# Altium integrated library Cypress USB Controllers.IntLib: 169 symbols (part 2 of 15)
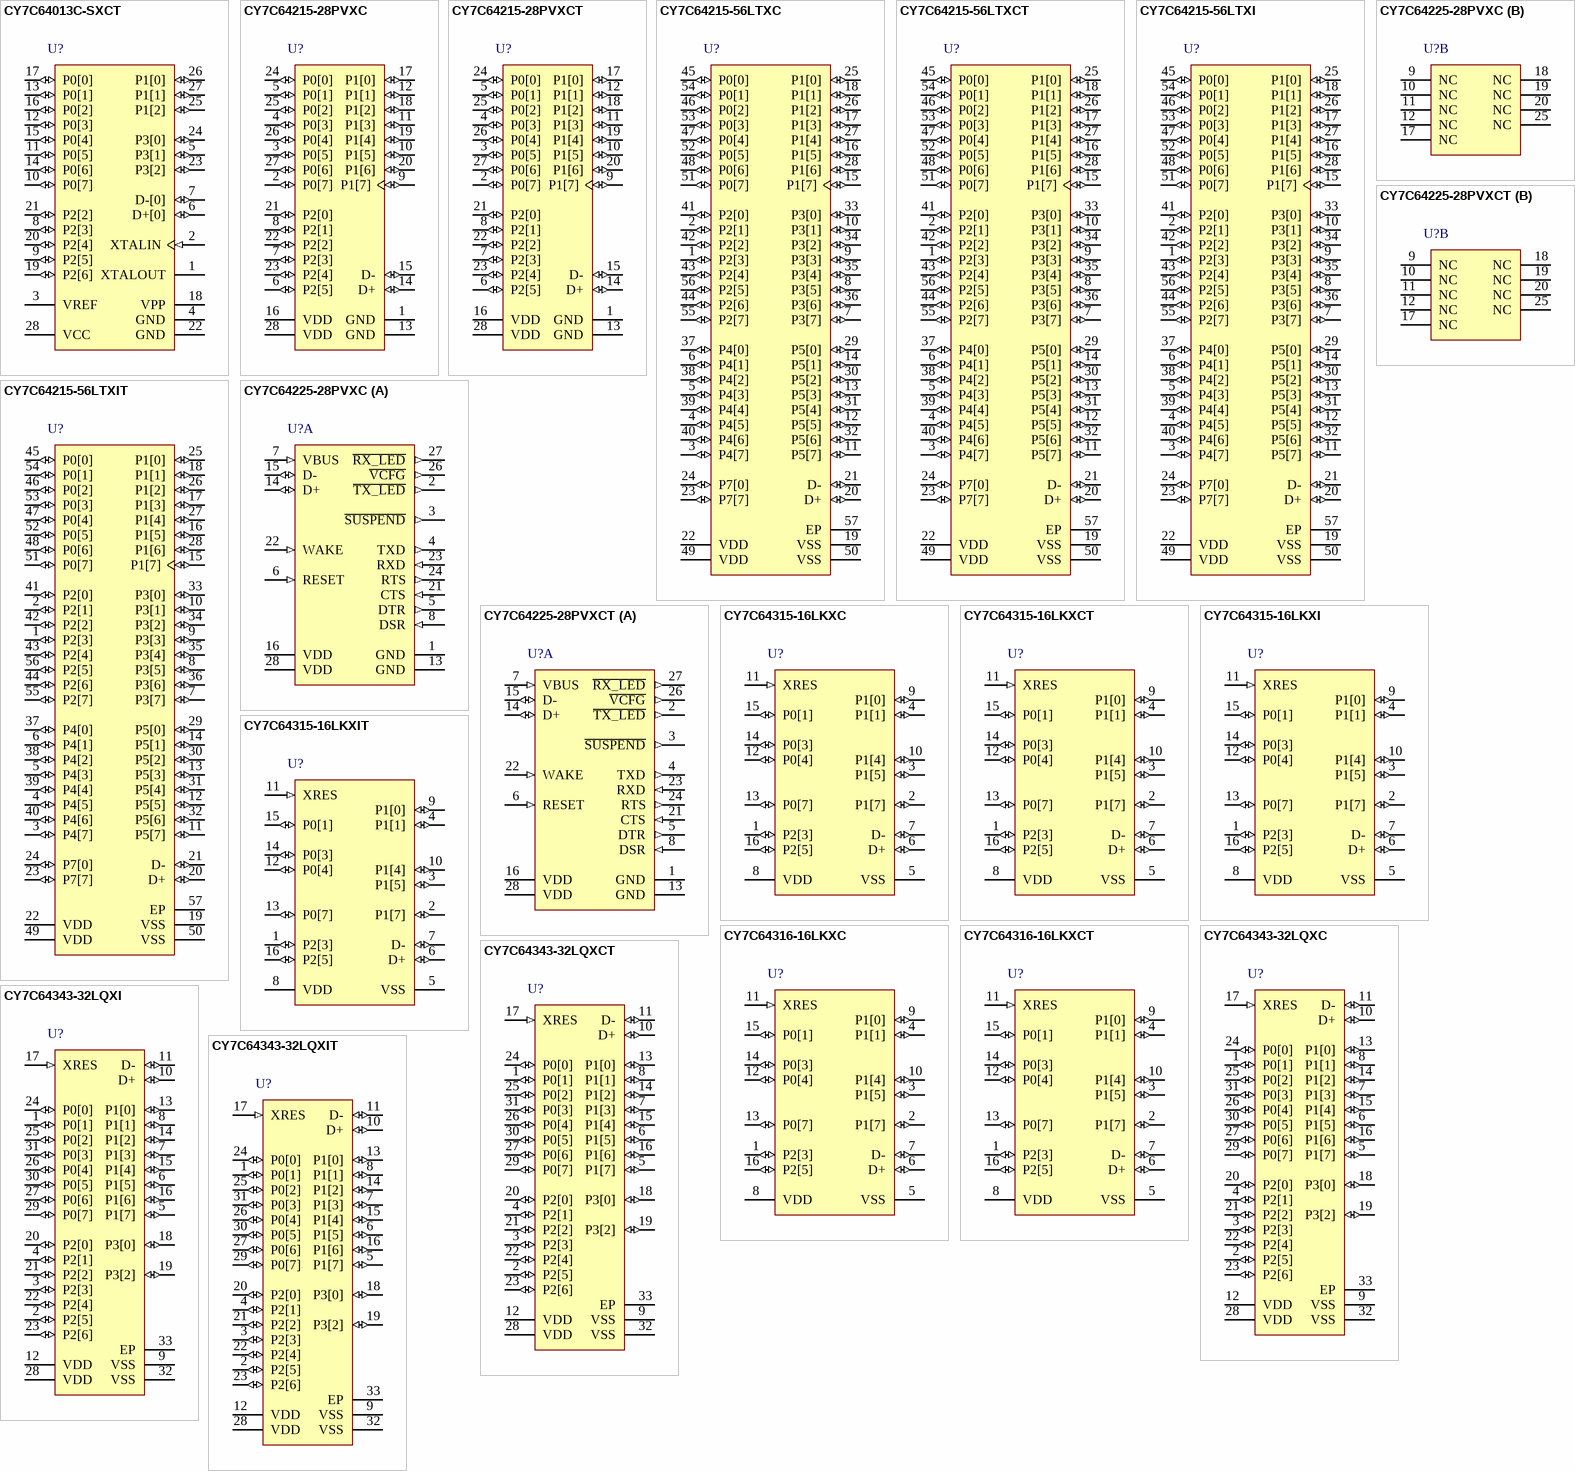
[diagram p23: symbols CY7C64013C-SXCT to CY7C64343-32LQXIT]

## CY7C64013C-SXCT
designator U?
Full-Speed USB (12-Mbps) Function, 8 KB, 19 I/Os, 3.15 to 3.45 V, 0 to 70 degC, 28-Pin SOIC (SX28), Tape and Reel; Manufacturer: Cypress; PartNumber: CY7C64013C-SXCT; CPU Core: M8; Max. Operating Voltage (V): 3.45; Memory Architecture: EPROM; Memory Size (KB): 8; Min. Operating Voltage (V): 3.15; No. of I/Os: 19; Populated: Yes; DatasheetVersion: Rev. *E; PackageVersion: Rev. *E, 01/2010; PackageReference: SX28; PackageDescription: 28-Pin SOIC, Body 17.91 x 7.51 mm, Pitch 1.27 mm; Supplier 1: Digi-Key; Supplier Part Number 1: CY7C64013C-SXCT-ND; Max. Operating Temp. (degreesC): 70; Min. Operating Temp. (degreesC): 0; Packing: Tape and Reel; RoHS: Pb-Free; Mounting Technology: Surface Mount; Code_JEDEC: MO-119; ComponentLink1Description: Manufacturer URL; ComponentLink1URL: http://www.cypress.com/; ComponentLink2Description: Datasheet; ComponentLink2URL: http://www.cypress.com/?docID=48692; ComponentLink3Description: Package Specification; ComponentLink3URL: http://www.cypress.com/?docID=39168
footprint CYP-SX28_N (SOIC, 28-Leads, Body 17.9x7.5mm, Pitch 1.27mm, IPC Medium Density)
footprint CYP-SX28_L (SOIC, 28-Leads, Body 17.9x7.5mm, Pitch 1.27mm, IPC High Density)
footprint CYP-SX28_M (SOIC, 28-Leads, Body 17.9x7.5mm, Pitch 1.27mm, IPC Low Density)
pins: 1 XTALOUT "6-MHz crystal out.", 2 XTALIN (in) "6-MHz crystal or external clock input.", 3 VREF (power) "External 3.3 V supply voltage for the differential data output buffers and the D+ pull-up.", 4 GND (power) "Ground.", 5 P3[1] (io) "GPIO Port 3, capable of sinking 12 mA (typical).", 6 D+[0] (io) "Upstream port, USB differential data.", 7 D-[0] (io) "Upstream port, USB differential data.", 8 P2[3] (io) "GPIO Port 2 capable of sinking 7 mA (typical). HAPI is also supported through P2[6:2].", 9 P2[5] (io) "GPIO Port 2 capable of sinking 7 mA (typical). HAPI is also supported through P2[6:2].", 10 P0[7] (io) "GPIO Port 0 capable of sinking 7 mA (typical).", 11 P0[5] (io) "GPIO Port 0 capable of sinking 7 mA (typical).", 12 P0[3] (io) "GPIO Port 0 capable of sinking 7 mA (typical).", 13 P0[1] (io) "GPIO Port 0 capable of sinking 7 mA (typical).", 14 P0[6] (io) "GPIO Port 0 capable of sinking 7 mA (typical).", 15 P0[4] (io) "GPIO Port 0 capable of sinking 7 mA (typical).", 16 P0[2] (io) "GPIO Port 0 capable of sinking 7 mA (typical).", 17 P0[0] (io) "GPIO Port 0 capable of sinking 7 mA (typical).", 18 VPP (power) "Programming voltage supply, tie to ground during normal operation.", 19 P2[6] (io) "GPIO Port 2 capable of sinking 7 mA (typical). HAPI is also supported through P2[6:2].", 20 P2[4] (io) "GPIO Port 2 capable of sinking 7 mA (typical). HAPI is also supported through P2[6:2].", 21 P2[2] (io) "GPIO Port 2 capable of sinking 7 mA (typical). HAPI is also supported through P2[6:2].", 22 GND (power) "Ground.", 23 P3[2] (io) "GPIO Port 3, capable of sinking 12 mA (typical).", 24 P3[0] (io) "GPIO Port 3, capable of sinking 12 mA (typical).", 25 P1[2] (io) "GPIO Port 1 capable of sinking 7 mA (typical).", 26 P1[0] (io) "GPIO Port 1 capable of sinking 7 mA (typical).", 27 P1[1] (io) "GPIO Port 1 capable of sinking 7 mA (typical).", 28 VCC (power) "Voltage supply."

## CY7C64215-28PVXC
designator U?
enCoRe(TM) III Full-Speed USB Controller, 16 KB, 22 I/Os, 3.15 to 5.25 V, 0 to 70 degC, 28-Pin SSOP (PVX28), Tube; Manufacturer: Cypress; PartNumber: CY7C64215-28PVXC; CPU Core: M8C; Max. Operating Voltage (V): 5.25; Memory Architecture: Flash; Memory Size (KB): 16; Min. Operating Voltage (V): 3.15; No. of I/Os: 22; Populated: Yes; DatasheetVersion: Rev. *D; PackageVersion: Rev. *C, 10/2001; PackageReference: PVX28; PackageDescription: 28-Pin Super Small Outline Package, Body 10.2 x 5.3 mm, Pitch 0.65 mm; Supplier 1: Digi-Key; Supplier Part Number 1: 428-2916-5-ND; Max. Operating Temp. (degreesC): 70; Min. Operating Temp. (degreesC): 0; Packing: Tube; RoHS: Pb-Free; Mounting Technology: Surface Mount; ComponentLink1Description: Manufacturer URL; ComponentLink1URL: http://www.cypress.com/; ComponentLink2Description: Datasheet; ComponentLink2URL: http://www.cypress.com/?docID=47572; ComponentLink3Description: Package Specification; ComponentLink3URL: http://www.cypress.com/?docID=1371
footprint CYP-PVX28_N (SOP, 28-Leads, Body 10.2x5.3mm, Pitch 0.65mm, IPC Medium Density)
footprint CYP-PVX28_L (SOP, 28-Leads, Body 10.2x5.3mm, Pitch 0.65mm, IPC High Density)
footprint CYP-PVX28_M (SOP, 28-Leads, Body 10.2x5.3mm, Pitch 0.65mm, IPC Low Density)
pins: 1 GND (power) "Ground connection.", 2 P0[7] (io) "Analog column mux input.", 3 P0[5] (io) "Analog column mux input and column output.", 4 P0[3] (io) "Analog column mux input and column output.", 5 P0[1] (io) "Analog column mux input.", 6 P2[5] (io), 7 P2[3] (io) "Direct switched capacitor block input.", 8 P2[1] (io) "Direct switched capacitor block input.", 9 P1[7] (io) "I2C SCL", 10 P1[5] (io) "I2C SDA", 11 P1[3] (io), 12 P1[1] (io) "I2C SCL, ISSP-SCLK.", 13 GND (power) "Ground connection.", 14 D+ (io), 15 D- (io), 16 VDD (power) "Supply voltage.", 17 P1[0] (io) "I2C SCL, ISSP-SDATA.", 18 P1[2] (io), 19 P1[4] (io), 20 P1[6] (io), 21 P2[0] (io) "Direct switched capacitor block input.", 22 P2[2] (io) "Direct switched capacitor block input.", 23 P2[4] (io) "External analog ground (AGND) input.", 24 P0[0] (io) "Analog column mux input.", 25 P0[2] (io) "Analog column mux input and column output.", 26 P0[4] (io) "Analog column mux input and column output.", 27 P0[6] (io) "Analog column mux input.", 28 VDD (power) "Supply voltage."

## CY7C64215-28PVXCT
designator U?
enCoRe(TM) III Full-Speed USB Controller, 16 KB, 22 I/Os, 3.15 to 5.25 V, 0 to 70 degC, 28-Pin SSOP (PVX28), Tape and Reel; Manufacturer: Cypress; PartNumber: CY7C64215-28PVXCT; CPU Core: M8C; Max. Operating Voltage (V): 5.25; Memory Architecture: Flash; Memory Size (KB): 16; Min. Operating Voltage (V): 3.15; No. of I/Os: 22; Populated: Yes; DatasheetVersion: Rev. *D; PackageVersion: Rev. *C, 10/2001; PackageReference: PVX28; PackageDescription: 28-Pin Super Small Outline Package, Body 10.2 x 5.3 mm, Pitch 0.65 mm; Supplier 1: Digi-Key; Supplier Part Number 1: CY7C64215-28PVXCT-ND; Max. Operating Temp. (degreesC): 70; Min. Operating Temp. (degreesC): 0; Packing: Tape and Reel; RoHS: Pb-Free; Mounting Technology: Surface Mount; ComponentLink1Description: Manufacturer URL; ComponentLink1URL: http://www.cypress.com/; ComponentLink2Description: Datasheet; ComponentLink2URL: http://www.cypress.com/?docID=47572; ComponentLink3Description: Package Specification; ComponentLink3URL: http://www.cypress.com/?docID=1371
footprint CYP-PVX28_N (SOP, 28-Leads, Body 10.2x5.3mm, Pitch 0.65mm, IPC Medium Density)
footprint CYP-PVX28_L (SOP, 28-Leads, Body 10.2x5.3mm, Pitch 0.65mm, IPC High Density)
footprint CYP-PVX28_M (SOP, 28-Leads, Body 10.2x5.3mm, Pitch 0.65mm, IPC Low Density)
pins: 1 GND (power) "Ground connection.", 2 P0[7] (io) "Analog column mux input.", 3 P0[5] (io) "Analog column mux input and column output.", 4 P0[3] (io) "Analog column mux input and column output.", 5 P0[1] (io) "Analog column mux input.", 6 P2[5] (io), 7 P2[3] (io) "Direct switched capacitor block input.", 8 P2[1] (io) "Direct switched capacitor block input.", 9 P1[7] (io) "I2C SCL", 10 P1[5] (io) "I2C SDA", 11 P1[3] (io), 12 P1[1] (io) "I2C SCL, ISSP-SCLK.", 13 GND (power) "Ground connection.", 14 D+ (io), 15 D- (io), 16 VDD (power) "Supply voltage.", 17 P1[0] (io) "I2C SCL, ISSP-SDATA.", 18 P1[2] (io), 19 P1[4] (io), 20 P1[6] (io), 21 P2[0] (io) "Direct switched capacitor block input.", 22 P2[2] (io) "Direct switched capacitor block input.", 23 P2[4] (io) "External analog ground (AGND) input.", 24 P0[0] (io) "Analog column mux input.", 25 P0[2] (io) "Analog column mux input and column output.", 26 P0[4] (io) "Analog column mux input and column output.", 27 P0[6] (io) "Analog column mux input.", 28 VDD (power) "Supply voltage."

## CY7C64215-56LTXC
designator U?
enCoRe(TM) III Full-Speed USB Controller, 16 KB, 50 I/Os, 3.15 to 5.25 V, 0 to 70 degC, 56-Pin QFN (LTX56), Tray; Manufacturer: Cypress; PartNumber: CY7C64215-56LTXC; CPU Core: M8C; Max. Operating Voltage (V): 5.25; Memory Architecture: Flash; Memory Size (KB): 16; Min. Operating Voltage (V): 3.15; No. of I/Os: 50; Populated: Yes; DatasheetVersion: Rev. *D; PackageVersion: Rev. *D; PackageReference: LTX56; PackageDescription: 56-Pin Sawn QFN, Body 8 x 8 mm, Pitch 0.5 mm; Supplier 1: Digi-Key; Supplier Part Number 1: CY7C64215-56LTXC-ND; Max. Operating Temp. (degreesC): 70; Min. Operating Temp. (degreesC): 0; Packing: Tray; RoHS: Pb-Free; Mounting Technology: Surface Mount; Code_JEDEC: MO-220; ComponentLink1Description: Manufacturer URL; ComponentLink1URL: http://www.cypress.com/; ComponentLink2Description: Datasheet; ComponentLink2URL: http://www.cypress.com/?docID=47572; ComponentLink3Description: Package Specification; ComponentLink3URL: http://www.cypress.com/?docID=47572
footprint CYP-LTX56-5200X4500TP_N (QFN, 56-Leads, Body 8.1x8.1mm, Pitch 0.5mm, Thermal Pad 5.2x4.5mm, IPC Medium Density)
footprint CYP-LTX56-5200X4500TP_L (QFN, 56-Leads, Body 8.1x8.1mm, Pitch 0.5mm, Thermal Pad 5.2x4.5mm, IPC High Density)
footprint CYP-LTX56-5200X4500TP_M (QFN, 56-Leads, Body 8.1x8.1mm, Pitch 0.5mm, Thermal Pad 5.2x4.5mm, IPC Low Density)
pins: 1 P2[3] (io) "Direct switched capacitor block input", 2 P2[1] (io) "Direct switched capacitor block input.", 3 P4[7] (io), 4 P4[5] (io), 5 P4[3] (io), 6 P4[1] (io), 7 P3[7] (io), 8 P3[5] (io), 9 P3[3] (io), 10 P3[1] (io), 11 P5[7] (io), 12 P5[5] (io), 13 P5[3] (io), 14 P5[1] (io), 15 P1[7] (io) "I2C serial clock (SCL).", 16 P1[5] (io) "I2C serial data (SDA).", 17 P1[3] (io), 18 P1[1] (io) "I2C SCL, ISSP-SCLK.", 19 VSS (power) "Ground connection.", 20 D+ (io), 21 D- (io), 22 VDD (power) "Supply voltage.", 23 P7[7] (io), 24 P7[0] (io), 25 P1[0] (io) "I2C SDA, ISSP-SDATA.", 26 P1[2] (io), 27 P1[4] (io) "Optional external clock input EXTCLK.", 28 P1[6] (io), 29 P5[0] (io), 30 P5[2] (io), 31 P5[4] (io), 32 P5[6] (io), 33 P3[0] (io), 34 P3[2] (io), 35 P3[4] (io), 36 P3[6] (io), 37 P4[0] (io), 38 P4[2] (io), 39 P4[4] (io), 40 P4[6] (io), 41 P2[0] (io) "Direct switched capacitor block input.", 42 P2[2] (io) "Direct switched capacitor block input.", 43 P2[4] (io) "External analog ground (AGND) input.", 44 P2[6] (io) "External voltage reference (VREF) input.", 45 P0[0] (io) "Analog column mux input.", 46 P0[2] (io) "Analog column mux input and column output.", 47 P0[4] (io) "Analog column mux input and column output.", 48 P0[6] (io) "Analog column mux input.", 49 VDD (power) "Supply voltage.", 50 VSS (power) "Ground connection.", 51 P0[7] (io) "Analog column mux input.", 52 P0[5] (io) "Analog column mux input and column output", 53 P0[3] (io) "Analog column mux input and column output.", 54 P0[1] (io) "Analog column mux input.", 55 P2[7] (io), 56 P2[5] (io), 57 EP (power)

## CY7C64215-56LTXCT
designator U?
enCoRe(TM) III Full-Speed USB Controller, 16 KB, 50 I/Os, 3.15 to 5.25 V, 0 to 70 degC, 56-Pin QFN (LTX56), Tape and Reel; Manufacturer: Cypress; PartNumber: CY7C64215-56LTXCT; CPU Core: M8C; Max. Operating Voltage (V): 5.25; Memory Architecture: Flash; Memory Size (KB): 16; Min. Operating Voltage (V): 3.15; No. of I/Os: 50; Populated: Yes; DatasheetVersion: Rev. *D; PackageVersion: Rev. *D; PackageReference: LTX56; PackageDescription: 56-Pin Sawn QFN, Body 8 x 8 mm, Pitch 0.5 mm; Supplier 1: Digi-Key; Supplier Part Number 1: CY7C64215-56LTXCT-ND; Max. Operating Temp. (degreesC): 70; Min. Operating Temp. (degreesC): 0; Packing: Tape and Reel; RoHS: Pb-Free; Mounting Technology: Surface Mount; Code_JEDEC: MO-220; ComponentLink1Description: Manufacturer URL; ComponentLink1URL: http://www.cypress.com/; ComponentLink2Description: Datasheet; ComponentLink2URL: http://www.cypress.com/?docID=47572; ComponentLink3Description: Package Specification; ComponentLink3URL: http://www.cypress.com/?docID=47572
footprint CYP-LTX56-5200X4500TP_N (QFN, 56-Leads, Body 8.1x8.1mm, Pitch 0.5mm, Thermal Pad 5.2x4.5mm, IPC Medium Density)
footprint CYP-LTX56-5200X4500TP_L (QFN, 56-Leads, Body 8.1x8.1mm, Pitch 0.5mm, Thermal Pad 5.2x4.5mm, IPC High Density)
footprint CYP-LTX56-5200X4500TP_M (QFN, 56-Leads, Body 8.1x8.1mm, Pitch 0.5mm, Thermal Pad 5.2x4.5mm, IPC Low Density)
pins: 1 P2[3] (io) "Direct switched capacitor block input", 2 P2[1] (io) "Direct switched capacitor block input.", 3 P4[7] (io), 4 P4[5] (io), 5 P4[3] (io), 6 P4[1] (io), 7 P3[7] (io), 8 P3[5] (io), 9 P3[3] (io), 10 P3[1] (io), 11 P5[7] (io), 12 P5[5] (io), 13 P5[3] (io), 14 P5[1] (io), 15 P1[7] (io) "I2C serial clock (SCL).", 16 P1[5] (io) "I2C serial data (SDA).", 17 P1[3] (io), 18 P1[1] (io) "I2C SCL, ISSP-SCLK.", 19 VSS (power) "Ground connection.", 20 D+ (io), 21 D- (io), 22 VDD (power) "Supply voltage.", 23 P7[7] (io), 24 P7[0] (io), 25 P1[0] (io) "I2C SDA, ISSP-SDATA.", 26 P1[2] (io), 27 P1[4] (io) "Optional external clock input EXTCLK.", 28 P1[6] (io), 29 P5[0] (io), 30 P5[2] (io), 31 P5[4] (io), 32 P5[6] (io), 33 P3[0] (io), 34 P3[2] (io), 35 P3[4] (io), 36 P3[6] (io), 37 P4[0] (io), 38 P4[2] (io), 39 P4[4] (io), 40 P4[6] (io), 41 P2[0] (io) "Direct switched capacitor block input.", 42 P2[2] (io) "Direct switched capacitor block input.", 43 P2[4] (io) "External analog ground (AGND) input.", 44 P2[6] (io) "External voltage reference (VREF) input.", 45 P0[0] (io) "Analog column mux input.", 46 P0[2] (io) "Analog column mux input and column output.", 47 P0[4] (io) "Analog column mux input and column output.", 48 P0[6] (io) "Analog column mux input.", 49 VDD (power) "Supply voltage.", 50 VSS (power) "Ground connection.", 51 P0[7] (io) "Analog column mux input.", 52 P0[5] (io) "Analog column mux input and column output", 53 P0[3] (io) "Analog column mux input and column output.", 54 P0[1] (io) "Analog column mux input.", 55 P2[7] (io), 56 P2[5] (io), 57 EP (power)

## CY7C64215-56LTXI
designator U?
enCoRe(TM) III Full-Speed USB Controller, 16 KB, 50 I/Os, 3.15 to 5.25 V, -40 to 85 degC, 56-Pin QFN (LTX56), Tray; Manufacturer: Cypress; PartNumber: CY7C64215-56LTXI; CPU Core: M8C; Max. Operating Voltage (V): 5.25; Memory Architecture: Flash; Memory Size (KB): 16; Min. Operating Voltage (V): 3.15; No. of I/Os: 50; Populated: Yes; DatasheetVersion: Rev. *D; PackageVersion: Rev. *D; PackageReference: LTX56; PackageDescription: 56-Pin Sawn QFN, Body 8 x 8 mm, Pitch 0.5 mm; Supplier 1: Digi-Key; Supplier Part Number 1: CY7C64215-56LTXI-ND; Max. Operating Temp. (degreesC): 85; Min. Operating Temp. (degreesC): -40; Packing: Tray; RoHS: Pb-Free; Mounting Technology: Surface Mount; Code_JEDEC: MO-220; ComponentLink1Description: Manufacturer URL; ComponentLink1URL: http://www.cypress.com/; ComponentLink2Description: Datasheet; ComponentLink2URL: http://www.cypress.com/?docID=47572; ComponentLink3Description: Package Specification; ComponentLink3URL: http://www.cypress.com/?docID=47572
footprint CYP-LTX56-5200X4500TP_N (QFN, 56-Leads, Body 8.1x8.1mm, Pitch 0.5mm, Thermal Pad 5.2x4.5mm, IPC Medium Density)
footprint CYP-LTX56-5200X4500TP_L (QFN, 56-Leads, Body 8.1x8.1mm, Pitch 0.5mm, Thermal Pad 5.2x4.5mm, IPC High Density)
footprint CYP-LTX56-5200X4500TP_M (QFN, 56-Leads, Body 8.1x8.1mm, Pitch 0.5mm, Thermal Pad 5.2x4.5mm, IPC Low Density)
pins: 1 P2[3] (io) "Direct switched capacitor block input", 2 P2[1] (io) "Direct switched capacitor block input.", 3 P4[7] (io), 4 P4[5] (io), 5 P4[3] (io), 6 P4[1] (io), 7 P3[7] (io), 8 P3[5] (io), 9 P3[3] (io), 10 P3[1] (io), 11 P5[7] (io), 12 P5[5] (io), 13 P5[3] (io), 14 P5[1] (io), 15 P1[7] (io) "I2C serial clock (SCL).", 16 P1[5] (io) "I2C serial data (SDA).", 17 P1[3] (io), 18 P1[1] (io) "I2C SCL, ISSP-SCLK.", 19 VSS (power) "Ground connection.", 20 D+ (io), 21 D- (io), 22 VDD (power) "Supply voltage.", 23 P7[7] (io), 24 P7[0] (io), 25 P1[0] (io) "I2C SDA, ISSP-SDATA.", 26 P1[2] (io), 27 P1[4] (io) "Optional external clock input EXTCLK.", 28 P1[6] (io), 29 P5[0] (io), 30 P5[2] (io), 31 P5[4] (io), 32 P5[6] (io), 33 P3[0] (io), 34 P3[2] (io), 35 P3[4] (io), 36 P3[6] (io), 37 P4[0] (io), 38 P4[2] (io), 39 P4[4] (io), 40 P4[6] (io), 41 P2[0] (io) "Direct switched capacitor block input.", 42 P2[2] (io) "Direct switched capacitor block input.", 43 P2[4] (io) "External analog ground (AGND) input.", 44 P2[6] (io) "External voltage reference (VREF) input.", 45 P0[0] (io) "Analog column mux input.", 46 P0[2] (io) "Analog column mux input and column output.", 47 P0[4] (io) "Analog column mux input and column output.", 48 P0[6] (io) "Analog column mux input.", 49 VDD (power) "Supply voltage.", 50 VSS (power) "Ground connection.", 51 P0[7] (io) "Analog column mux input.", 52 P0[5] (io) "Analog column mux input and column output", 53 P0[3] (io) "Analog column mux input and column output.", 54 P0[1] (io) "Analog column mux input.", 55 P2[7] (io), 56 P2[5] (io), 57 EP (power)

## CY7C64215-56LTXIT
designator U?
enCoRe(TM) III Full-Speed USB Controller, 16 KB, 50 I/Os, 3.15 to 5.25 V, -40 to 85 degC, 56-Pin QFN (LTX56), Tape and Reel; Manufacturer: Cypress; PartNumber: CY7C64215-56LTXIT; CPU Core: M8C; Max. Operating Voltage (V): 5.25; Memory Architecture: Flash; Memory Size (KB): 16; Min. Operating Voltage (V): 3.15; No. of I/Os: 50; Populated: Yes; DatasheetVersion: Rev. *D; PackageVersion: Rev. *D; PackageReference: LTX56; PackageDescription: 56-Pin Sawn QFN, Body 8 x 8 mm, Pitch 0.5 mm; Supplier 1: Digi-Key; Supplier Part Number 1: CY7C64215-56LTXIT-ND; Max. Operating Temp. (degreesC): 85; Min. Operating Temp. (degreesC): -40; Packing: Tape and Reel; RoHS: Pb-Free; Mounting Technology: Surface Mount; Code_JEDEC: MO-220; ComponentLink1Description: Manufacturer URL; ComponentLink1URL: http://www.cypress.com/; ComponentLink2Description: Datasheet; ComponentLink2URL: http://www.cypress.com/?docID=47572; ComponentLink3Description: Package Specification; ComponentLink3URL: http://www.cypress.com/?docID=47572
footprint CYP-LTX56-5200X4500TP_N (QFN, 56-Leads, Body 8.1x8.1mm, Pitch 0.5mm, Thermal Pad 5.2x4.5mm, IPC Medium Density)
footprint CYP-LTX56-5200X4500TP_L (QFN, 56-Leads, Body 8.1x8.1mm, Pitch 0.5mm, Thermal Pad 5.2x4.5mm, IPC High Density)
footprint CYP-LTX56-5200X4500TP_M (QFN, 56-Leads, Body 8.1x8.1mm, Pitch 0.5mm, Thermal Pad 5.2x4.5mm, IPC Low Density)
pins: 1 P2[3] (io) "Direct switched capacitor block input", 2 P2[1] (io) "Direct switched capacitor block input.", 3 P4[7] (io), 4 P4[5] (io), 5 P4[3] (io), 6 P4[1] (io), 7 P3[7] (io), 8 P3[5] (io), 9 P3[3] (io), 10 P3[1] (io), 11 P5[7] (io), 12 P5[5] (io), 13 P5[3] (io), 14 P5[1] (io), 15 P1[7] (io) "I2C serial clock (SCL).", 16 P1[5] (io) "I2C serial data (SDA).", 17 P1[3] (io), 18 P1[1] (io) "I2C SCL, ISSP-SCLK.", 19 VSS (power) "Ground connection.", 20 D+ (io), 21 D- (io), 22 VDD (power) "Supply voltage.", 23 P7[7] (io), 24 P7[0] (io), 25 P1[0] (io) "I2C SDA, ISSP-SDATA.", 26 P1[2] (io), 27 P1[4] (io) "Optional external clock input EXTCLK.", 28 P1[6] (io), 29 P5[0] (io), 30 P5[2] (io), 31 P5[4] (io), 32 P5[6] (io), 33 P3[0] (io), 34 P3[2] (io), 35 P3[4] (io), 36 P3[6] (io), 37 P4[0] (io), 38 P4[2] (io), 39 P4[4] (io), 40 P4[6] (io), 41 P2[0] (io) "Direct switched capacitor block input.", 42 P2[2] (io) "Direct switched capacitor block input.", 43 P2[4] (io) "External analog ground (AGND) input.", 44 P2[6] (io) "External voltage reference (VREF) input.", 45 P0[0] (io) "Analog column mux input.", 46 P0[2] (io) "Analog column mux input and column output.", 47 P0[4] (io) "Analog column mux input and column output.", 48 P0[6] (io) "Analog column mux input.", 49 VDD (power) "Supply voltage.", 50 VSS (power) "Ground connection.", 51 P0[7] (io) "Analog column mux input.", 52 P0[5] (io) "Analog column mux input and column output", 53 P0[3] (io) "Analog column mux input and column output.", 54 P0[1] (io) "Analog column mux input.", 55 P2[7] (io), 56 P2[5] (io), 57 EP (power)

## CY7C64225-28PVXC
designator U?
USB-to-UART Bridge Controller, 3 to 5.25 V, 0 to 70 degC, 28-Pin SSOP (PVX28), Tube; Manufacturer: Cypress; PartNumber: CY7C64225-28PVXC; Max. Operating Voltage (V): 5.25; Memory Architecture: Flash; Min. Operating Voltage (V): 3; Populated: Yes; DatasheetVersion: Rev. *D; PackageVersion: Rev. *C, 10/2001; PackageReference: PVX28; PackageDescription: 28-Pin Super Small Outline Package, Body 10.2 x 5.3 mm, Pitch 0.65 mm; Supplier 1: Digi-Key; Supplier Part Number 1: 428-3158-ND; Max. Operating Temp. (degreesC): 70; Min. Operating Temp. (degreesC): 0; Packing: Tube; RoHS: Pb-Free; Mounting Technology: Surface Mount; ComponentLink1Description: Manufacturer URL; ComponentLink1URL: http://www.cypress.com/; ComponentLink2Description: Datasheet; ComponentLink2URL: http://www.cypress.com/?docID=48153; ComponentLink3Description: Package Specification; ComponentLink3URL: http://www.cypress.com/?docID=1371
footprint CYP-PVX28_N (SOP, 28-Leads, Body 10.2x5.3mm, Pitch 0.65mm, IPC Medium Density)
footprint CYP-PVX28_L (SOP, 28-Leads, Body 10.2x5.3mm, Pitch 0.65mm, IPC High Density)
footprint CYP-PVX28_M (SOP, 28-Leads, Body 10.2x5.3mm, Pitch 0.65mm, IPC Low Density)
part A pins: 1 GND (power) "Ground", 2 ~{TX_LED} (out) "Active low, UART Tx_LED, max current -20 mA", 3 ~{SUSPEND} (out) "Active low indicates USB is suspended", 4 TXD (out) "UART Data Transmit, Output", 5 DTR (out) "Data Terminal Ready (DTR) Pin", 6 RESET (in) "Active high on this pin resets the device", 7 VBUS (in) "Used for VBUS monitoring. This pin requires a series resistor when connected to VBUS. The recommended values are in the range of 1 kohm-10 kohm.", 8 DSR (in) "Data Set Ready (DSR) pin", 13 GND (power) "USB Ground", 14 D+ (io) "USB D+ Line", 15 D- (io) "USB D- Line", 16 VDD (power) "Supply Voltage (3.3 V or 5 V)", 21 CTS (in) "Clear to Send (CTS) input, handshake signal", 22 WAKE (in) "Active high on this pin, generates Remote Wake-Up signal on the Bus", 23 RXD (in) "UART Data Receive, Input", 24 RTS (out) "Request to Sent (RTS) output, hand-shake signal", 26 ~{VCFG} (out) "Active low indicates VBUS is detected and device is configured", 27 ~{RX_LED} (out) "Active low, UART Rx_LED, max current -20 mA", 28 VDD (power) "Supply Voltage. 3.3 V or 5 V"
part B pins: 9 NC "No Connect", 10 NC "No Connect", 11 NC "No Connect", 12 NC "No Connect", 17 NC "No Connect", 18 NC "No Connect", 19 NC "No Connect", 20 NC "No Connect", 25 NC "No Connect"

## CY7C64225-28PVXCT
designator U?
USB-to-UART Bridge Controller, 3 to 5.25 V, 0 to 70 degC, 28-Pin SSOP (PVX28), Tape and Reel; Manufacturer: Cypress; PartNumber: CY7C64225-28PVXCT; Max. Operating Voltage (V): 5.25; Memory Architecture: Flash; Min. Operating Voltage (V): 3; Populated: Yes; DatasheetVersion: Rev. *D; PackageVersion: Rev. *C, 10/2001; PackageReference: PVX28; PackageDescription: 28-Pin Super Small Outline Package, Body 10.2 x 5.3 mm, Pitch 0.65 mm; Supplier 1: Digi-Key; Supplier Part Number 1: CY7C64225-28PVXCT-ND; Max. Operating Temp. (degreesC): 70; Min. Operating Temp. (degreesC): 0; Packing: Tape and Reel; RoHS: Pb-Free; Mounting Technology: Surface Mount; ComponentLink1Description: Manufacturer URL; ComponentLink1URL: http://www.cypress.com/; ComponentLink2Description: Datasheet; ComponentLink2URL: http://www.cypress.com/?docID=48153; ComponentLink3Description: Package Specification; ComponentLink3URL: http://www.cypress.com/?docID=1371
footprint CYP-PVX28_N (SOP, 28-Leads, Body 10.2x5.3mm, Pitch 0.65mm, IPC Medium Density)
footprint CYP-PVX28_L (SOP, 28-Leads, Body 10.2x5.3mm, Pitch 0.65mm, IPC High Density)
footprint CYP-PVX28_M (SOP, 28-Leads, Body 10.2x5.3mm, Pitch 0.65mm, IPC Low Density)
part A pins: 1 GND (power) "Ground", 2 ~{TX_LED} (out) "Active low, UART Tx_LED, max current -20 mA", 3 ~{SUSPEND} (out) "Active low indicates USB is suspended", 4 TXD (out) "UART Data Transmit, Output", 5 DTR (out) "Data Terminal Ready (DTR) Pin", 6 RESET (in) "Active high on this pin resets the device", 7 VBUS (in) "Used for VBUS monitoring. This pin requires a series resistor when connected to VBUS. The recommended values are in the range of 1 kohm-10 kohm.", 8 DSR (in) "Data Set Ready (DSR) pin", 13 GND (power) "USB Ground", 14 D+ (io) "USB D+ Line", 15 D- (io) "USB D- Line", 16 VDD (power) "Supply Voltage (3.3 V or 5 V)", 21 CTS (in) "Clear to Send (CTS) input, handshake signal", 22 WAKE (in) "Active high on this pin, generates Remote Wake-Up signal on the Bus", 23 RXD (in) "UART Data Receive, Input", 24 RTS (out) "Request to Sent (RTS) output, hand-shake signal", 26 ~{VCFG} (out) "Active low indicates VBUS is detected and device is configured", 27 ~{RX_LED} (out) "Active low, UART Rx_LED, max current -20 mA", 28 VDD (power) "Supply Voltage. 3.3 V or 5 V"
part B pins: 9 NC "No Connect", 10 NC "No Connect", 11 NC "No Connect", 12 NC "No Connect", 17 NC "No Connect", 18 NC "No Connect", 19 NC "No Connect", 20 NC "No Connect", 25 NC "No Connect"

## CY7C64315-16LKXC
designator U?
enCoRe(TM) V Full Speed USB Controller, 16 KB, 11 I/Os, 3 to 5.5 V, 0 to 70 degC, 16-Pin QFN (LKX16), Tray; Manufacturer: Cypress; PartNumber: CY7C64315-16LKXC; CPU Core: M8C; Max. Operating Voltage (V): 5.5; Memory Architecture: Flash; Memory Size (KB): 16; Min. Operating Voltage (V): 3; No. of I/Os: 11; Populated: Yes; DatasheetVersion: Rev. *R; PackageVersion: Rev. *E, 11/2009; PackageReference: LKX16; PackageDescription: 16-Pin Chip on Lead Sawn QFN, Body 3 X 3 mm, Pitch 0.5 mm; Supplier 1: Digi-Key; Supplier Part Number 1: 428-2885-ND; Max. Operating Temp. (degreesC): 70; Min. Operating Temp. (degreesC): 0; Packing: Tray; RoHS: Pb-Free; Mounting Technology: Surface Mount; Code_JEDEC: MO-220; ComponentLink1Description: Manufacturer URL; ComponentLink1URL: http://www.cypress.com/; ComponentLink2Description: Datasheet; ComponentLink2URL: http://www.cypress.com/?docID=46968; ComponentLink3Description: Package Specification; ComponentLink3URL: http://www.cypress.com/?docID=39689
footprint CYP-LKX16_N (QFN, 16-Leads, Body 3x3mm, Pitch 0.5mm, IPC Medium Density)
footprint CYP-LKX16_L (QFN, 16-Leads, Body 3x3mm, Pitch 0.5mm, IPC High Density)
footprint CYP-LKX16_M (QFN, 16-Leads, Body 3x3mm, Pitch 0.5mm, IPC Low Density)
pins: 1 P2[3] (io) "Digital I/O, crystal input (Xin)", 2 P1[7] (io) "Digital I/O, SPI SS, I2C SCL", 3 P1[5] (io) "Digital I/O, SPI MISO, I2C SDA", 4 P1[1] (io) "Digital I/O, ISSP CLK, I2C SCL, SPI MOSI", 5 VSS (power) "Ground connection", 6 D+ (io) "USB PHY", 7 D- (io) "USB PHY", 8 VDD (power) "Supply", 9 P1[0] (io) "Digital I/O, ISSP DATA, I2C SDA, SPI CLK", 10 P1[4] (io) "Digital I/O, optional external clock input (EXTCLK)", 11 XRES (in) "Active high external reset with internal pull-down", 12 P0[4] (io) "Digital I/O", 13 P0[7] (io) "Digital I/O", 14 P0[3] (io) "Digital I/O", 15 P0[1] (io) "Digital I/O", 16 P2[5] (io) "Digital I/O, crystal output (Xout)"

## CY7C64315-16LKXCT
designator U?
enCoRe(TM) V Full Speed USB Controller, 16 KB, 11 I/Os, 3 to 5.5 V, 0 to 70 degC, 16-Pin QFN (LKX16), Tape and Reel; Manufacturer: Cypress; PartNumber: CY7C64315-16LKXCT; CPU Core: M8C; Max. Operating Voltage (V): 5.5; Memory Architecture: Flash; Memory Size (KB): 16; Min. Operating Voltage (V): 3; No. of I/Os: 11; Populated: Yes; DatasheetVersion: Rev. *R; PackageVersion: Rev. *E, 11/2009; PackageReference: LKX16; PackageDescription: 16-Pin Chip on Lead Sawn QFN, Body 3 X 3 mm, Pitch 0.5 mm; Supplier 1: Digi-Key; Supplier Part Number 1: CY7C64315-16LKXCT-ND; Max. Operating Temp. (degreesC): 70; Min. Operating Temp. (degreesC): 0; Packing: Tape and Reel; RoHS: Pb-Free; Mounting Technology: Surface Mount; Code_JEDEC: MO-220; ComponentLink1Description: Manufacturer URL; ComponentLink1URL: http://www.cypress.com/; ComponentLink2Description: Datasheet; ComponentLink2URL: http://www.cypress.com/?docID=46968; ComponentLink3Description: Package Specification; ComponentLink3URL: http://www.cypress.com/?docID=39689
footprint CYP-LKX16_N (QFN, 16-Leads, Body 3x3mm, Pitch 0.5mm, IPC Medium Density)
footprint CYP-LKX16_L (QFN, 16-Leads, Body 3x3mm, Pitch 0.5mm, IPC High Density)
footprint CYP-LKX16_M (QFN, 16-Leads, Body 3x3mm, Pitch 0.5mm, IPC Low Density)
pins: 1 P2[3] (io) "Digital I/O, crystal input (Xin)", 2 P1[7] (io) "Digital I/O, SPI SS, I2C SCL", 3 P1[5] (io) "Digital I/O, SPI MISO, I2C SDA", 4 P1[1] (io) "Digital I/O, ISSP CLK, I2C SCL, SPI MOSI", 5 VSS (power) "Ground connection", 6 D+ (io) "USB PHY", 7 D- (io) "USB PHY", 8 VDD (power) "Supply", 9 P1[0] (io) "Digital I/O, ISSP DATA, I2C SDA, SPI CLK", 10 P1[4] (io) "Digital I/O, optional external clock input (EXTCLK)", 11 XRES (in) "Active high external reset with internal pull-down", 12 P0[4] (io) "Digital I/O", 13 P0[7] (io) "Digital I/O", 14 P0[3] (io) "Digital I/O", 15 P0[1] (io) "Digital I/O", 16 P2[5] (io) "Digital I/O, crystal output (Xout)"

## CY7C64315-16LKXI
designator U?
enCoRe(TM) V Full Speed USB Controller, 16 KB, 11 I/Os, 3 to 5.5 V, -40 to 85 degC, 16-Pin QFN (LKX16); Manufacturer: Cypress; PartNumber: CY7C64315-16LKXI; CPU Core: M8C; Max. Operating Voltage (V): 5.5; Memory Architecture: Flash; Memory Size (KB): 16; Min. Operating Voltage (V): 3; No. of I/Os: 11; Populated: Yes; DatasheetVersion: Rev. *R; PackageVersion: Rev. *E, 11/2009; PackageReference: LKX16; PackageDescription: 16-Pin Chip on Lead Sawn QFN, Body 3 X 3 mm, Pitch 0.5 mm; Max. Operating Temp. (degreesC): 85; Min. Operating Temp. (degreesC): -40; RoHS: Pb-Free; Mounting Technology: Surface Mount; Code_JEDEC: MO-220; ComponentLink1Description: Manufacturer URL; ComponentLink1URL: http://www.cypress.com/; ComponentLink2Description: Datasheet; ComponentLink2URL: http://www.cypress.com/?docID=46968; ComponentLink3Description: Package Specification; ComponentLink3URL: http://www.cypress.com/?docID=39689
footprint CYP-LKX16_N (QFN, 16-Leads, Body 3x3mm, Pitch 0.5mm, IPC Medium Density)
footprint CYP-LKX16_L (QFN, 16-Leads, Body 3x3mm, Pitch 0.5mm, IPC High Density)
footprint CYP-LKX16_M (QFN, 16-Leads, Body 3x3mm, Pitch 0.5mm, IPC Low Density)
pins: 1 P2[3] (io) "Digital I/O, crystal input (Xin)", 2 P1[7] (io) "Digital I/O, SPI SS, I2C SCL", 3 P1[5] (io) "Digital I/O, SPI MISO, I2C SDA", 4 P1[1] (io) "Digital I/O, ISSP CLK, I2C SCL, SPI MOSI", 5 VSS (power) "Ground connection", 6 D+ (io) "USB PHY", 7 D- (io) "USB PHY", 8 VDD (power) "Supply", 9 P1[0] (io) "Digital I/O, ISSP DATA, I2C SDA, SPI CLK", 10 P1[4] (io) "Digital I/O, optional external clock input (EXTCLK)", 11 XRES (in) "Active high external reset with internal pull-down", 12 P0[4] (io) "Digital I/O", 13 P0[7] (io) "Digital I/O", 14 P0[3] (io) "Digital I/O", 15 P0[1] (io) "Digital I/O", 16 P2[5] (io) "Digital I/O, crystal output (Xout)"

## CY7C64315-16LKXIT
designator U?
enCoRe(TM) V Full Speed USB Controller, 16 KB, 11 I/Os, 3 to 5.5 V, -40 to 85 degC, 16-Pin QFN (LKX16), Tape and Reel; Manufacturer: Cypress; PartNumber: CY7C64315-16LKXIT; CPU Core: M8C; Max. Operating Voltage (V): 5.5; Memory Architecture: Flash; Memory Size (KB): 16; Min. Operating Voltage (V): 3; No. of I/Os: 11; Populated: Yes; DatasheetVersion: Rev. *R; PackageVersion: Rev. *E, 11/2009; PackageReference: LKX16; PackageDescription: 16-Pin Chip on Lead Sawn QFN, Body 3 X 3 mm, Pitch 0.5 mm; Max. Operating Temp. (degreesC): 85; Min. Operating Temp. (degreesC): -40; Packing: Tape and Reel; RoHS: Pb-Free; Mounting Technology: Surface Mount; Code_JEDEC: MO-220; ComponentLink1Description: Manufacturer URL; ComponentLink1URL: http://www.cypress.com/; ComponentLink2Description: Datasheet; ComponentLink2URL: http://www.cypress.com/?docID=46968; ComponentLink3Description: Package Specification; ComponentLink3URL: http://www.cypress.com/?docID=39689
footprint CYP-LKX16_N (QFN, 16-Leads, Body 3x3mm, Pitch 0.5mm, IPC Medium Density)
footprint CYP-LKX16_L (QFN, 16-Leads, Body 3x3mm, Pitch 0.5mm, IPC High Density)
footprint CYP-LKX16_M (QFN, 16-Leads, Body 3x3mm, Pitch 0.5mm, IPC Low Density)
pins: 1 P2[3] (io) "Digital I/O, crystal input (Xin)", 2 P1[7] (io) "Digital I/O, SPI SS, I2C SCL", 3 P1[5] (io) "Digital I/O, SPI MISO, I2C SDA", 4 P1[1] (io) "Digital I/O, ISSP CLK, I2C SCL, SPI MOSI", 5 VSS (power) "Ground connection", 6 D+ (io) "USB PHY", 7 D- (io) "USB PHY", 8 VDD (power) "Supply", 9 P1[0] (io) "Digital I/O, ISSP DATA, I2C SDA, SPI CLK", 10 P1[4] (io) "Digital I/O, optional external clock input (EXTCLK)", 11 XRES (in) "Active high external reset with internal pull-down", 12 P0[4] (io) "Digital I/O", 13 P0[7] (io) "Digital I/O", 14 P0[3] (io) "Digital I/O", 15 P0[1] (io) "Digital I/O", 16 P2[5] (io) "Digital I/O, crystal output (Xout)"

## CY7C64316-16LKXC
designator U?
enCoRe(TM) V Full Speed USB Controller, 32 KB, 11 I/Os, 3 to 5.5 V, 0 to 70 degC, 16-Pin QFN (LKX16), Tray; Manufacturer: Cypress; PartNumber: CY7C64316-16LKXC; CPU Core: M8C; Max. Operating Voltage (V): 5.5; Memory Architecture: Flash; Memory Size (KB): 32; Min. Operating Voltage (V): 3; No. of I/Os: 11; Populated: Yes; DatasheetVersion: Rev. *R; PackageVersion: Rev. *E, 11/2009; PackageReference: LKX16; PackageDescription: 16-Pin Chip on Lead Sawn QFN, Body 3 X 3 mm, Pitch 0.5 mm; Supplier 1: Digi-Key; Supplier Part Number 1: 428-2886-ND; Max. Operating Temp. (degreesC): 70; Min. Operating Temp. (degreesC): 0; Packing: Tray; RoHS: Pb-Free; Mounting Technology: Surface Mount; Code_JEDEC: MO-220; ComponentLink1Description: Manufacturer URL; ComponentLink1URL: http://www.cypress.com/; ComponentLink2Description: Datasheet; ComponentLink2URL: http://www.cypress.com/?docID=46968; ComponentLink3Description: Package Specification; ComponentLink3URL: http://www.cypress.com/?docID=39689
footprint CYP-LKX16_N (QFN, 16-Leads, Body 3x3mm, Pitch 0.5mm, IPC Medium Density)
footprint CYP-LKX16_L (QFN, 16-Leads, Body 3x3mm, Pitch 0.5mm, IPC High Density)
footprint CYP-LKX16_M (QFN, 16-Leads, Body 3x3mm, Pitch 0.5mm, IPC Low Density)
pins: 1 P2[3] (io) "Digital I/O, crystal input (Xin)", 2 P1[7] (io) "Digital I/O, SPI SS, I2C SCL", 3 P1[5] (io) "Digital I/O, SPI MISO, I2C SDA", 4 P1[1] (io) "Digital I/O, ISSP CLK, I2C SCL, SPI MOSI", 5 VSS (power) "Ground connection", 6 D+ (io) "USB PHY", 7 D- (io) "USB PHY", 8 VDD (power) "Supply", 9 P1[0] (io) "Digital I/O, ISSP DATA, I2C SDA, SPI CLK", 10 P1[4] (io) "Digital I/O, optional external clock input (EXTCLK)", 11 XRES (in) "Active high external reset with internal pull-down", 12 P0[4] (io) "Digital I/O", 13 P0[7] (io) "Digital I/O", 14 P0[3] (io) "Digital I/O", 15 P0[1] (io) "Digital I/O", 16 P2[5] (io) "Digital I/O, crystal output (Xout)"

## CY7C64316-16LKXCT
designator U?
enCoRe(TM) V Full Speed USB Controller, 32 KB, 11 I/Os, 3 to 5.5 V, 0 to 70 degC, 16-Pin QFN (LKX16), Tape and Reel; Manufacturer: Cypress; PartNumber: CY7C64316-16LKXCT; CPU Core: M8C; Max. Operating Voltage (V): 5.5; Memory Architecture: Flash; Memory Size (KB): 32; Min. Operating Voltage (V): 3; No. of I/Os: 11; Populated: Yes; DatasheetVersion: Rev. *R; PackageVersion: Rev. *E, 11/2009; PackageReference: LKX16; PackageDescription: 16-Pin Chip on Lead Sawn QFN, Body 3 X 3 mm, Pitch 0.5 mm; Supplier 1: Digi-Key; Supplier Part Number 1: CY7C64316-16LKXCT-ND; Max. Operating Temp. (degreesC): 70; Min. Operating Temp. (degreesC): 0; Packing: Tape and Reel; RoHS: Pb-Free; Mounting Technology: Surface Mount; Code_JEDEC: MO-220; ComponentLink1Description: Manufacturer URL; ComponentLink1URL: http://www.cypress.com/; ComponentLink2Description: Datasheet; ComponentLink2URL: http://www.cypress.com/?docID=46968; ComponentLink3Description: Package Specification; ComponentLink3URL: http://www.cypress.com/?docID=39689
footprint CYP-LKX16_N (QFN, 16-Leads, Body 3x3mm, Pitch 0.5mm, IPC Medium Density)
footprint CYP-LKX16_L (QFN, 16-Leads, Body 3x3mm, Pitch 0.5mm, IPC High Density)
footprint CYP-LKX16_M (QFN, 16-Leads, Body 3x3mm, Pitch 0.5mm, IPC Low Density)
pins: 1 P2[3] (io) "Digital I/O, crystal input (Xin)", 2 P1[7] (io) "Digital I/O, SPI SS, I2C SCL", 3 P1[5] (io) "Digital I/O, SPI MISO, I2C SDA", 4 P1[1] (io) "Digital I/O, ISSP CLK, I2C SCL, SPI MOSI", 5 VSS (power) "Ground connection", 6 D+ (io) "USB PHY", 7 D- (io) "USB PHY", 8 VDD (power) "Supply", 9 P1[0] (io) "Digital I/O, ISSP DATA, I2C SDA, SPI CLK", 10 P1[4] (io) "Digital I/O, optional external clock input (EXTCLK)", 11 XRES (in) "Active high external reset with internal pull-down", 12 P0[4] (io) "Digital I/O", 13 P0[7] (io) "Digital I/O", 14 P0[3] (io) "Digital I/O", 15 P0[1] (io) "Digital I/O", 16 P2[5] (io) "Digital I/O, crystal output (Xout)"

## CY7C64343-32LQXC
designator U?
enCoRe(TM) V Full Speed USB Controller, 8 KB, 25 I/Os, 3 to 5.5 V, 0 to 70 degC, 32-Pin QFN (LQX32), Tray; Manufacturer: Cypress; PartNumber: CY7C64343-32LQXC; CPU Core: M8C; Max. Operating Voltage (V): 5.5; Memory Architecture: Flash; Memory Size (KB): 8; Min. Operating Voltage (V): 3; No. of I/Os: 25; Populated: Yes; DatasheetVersion: Rev. *R; PackageVersion: Rev. *E; PackageReference: LQX32; PackageDescription: 32-Pin QFN (5 x 4 x 0.55 mm) LQ32 3.5 x 3.5 E-Pad (Sawn); Supplier 1: Digi-Key; Supplier Part Number 1: 428-2964-ND; Max. Operating Temp. (degreesC): 70; Min. Operating Temp. (degreesC): 0; Packing: Tray; RoHS: Pb-Free; Mounting Technology: Surface Mount; Code_JEDEC: MO-248; ComponentLink1Description: Manufacturer URL; ComponentLink1URL: http://www.cypress.com/; ComponentLink2Description: Datasheet; ComponentLink2URL: http://www.cypress.com/?docID=46968; ComponentLink3Description: Package Specification; ComponentLink3URL: http://www.cypress.com/?docID=46968
footprint CYP-LQX32_N (QFN, 32-Leads, Body 5x5mm, Pitch 0.5mm, Thermal Pad 3.5x3.5mm, IPC Medium Density)
footprint CYP-LQX32_L (QFN, 32-Leads, Body 5x5mm, Pitch 0.5mm, Thermal Pad 3.5X3.5mm, IPC High Density)
footprint CYP-LQX32_M (QFN, 32-Leads, Body 5x5mm, Pitch 0.5mm, Thermal Pad 3.5x3.5mm, IPC Low Density)
pins: 1 P0[1] (io) "Digital I/O", 2 P2[5] (io) "Digital I/O, crystal output (Xout)", 3 P2[3] (io) "Digital I/O, crystal Input (Xin)", 4 P2[1] (io) "Digital I/O", 5 P1[7] (io) "Digital I/O, I2C SCL, SPI SS", 6 P1[5] (io) "Digital I/O, I2C SDA, SPI MISO", 7 P1[3] (io) "Digital I/O, SPI CLK", 8 P1[1] (io) "Digital I/O, ISSP CLK, I2C SCL, SPI MOSI", 9 VSS (power) "Ground", 10 D+ (io) "USB PHY", 11 D- (io) "USB PHY", 12 VDD (power) "Supply voltage", 13 P1[0] (io) "Digital I/O, ISSP DATA, I2C SDA, SPI CLK", 14 P1[2] (io) "Digital I/O", 15 P1[4] (io) "Digital I/O, optional external clock input (EXTCLK)", 16 P1[6] (io) "Digital I/O", 17 XRES (in) "Active high external reset with internal pull down", 18 P3[0] (io) "Digital I/O", 19 P3[2] (io) "Digital I/O", 20 P2[0] (io) "Digital I/O", 21 P2[2] (io) "Digital I/O", 22 P2[4] (io) "Digital I/O", 23 P2[6] (io) "Digital I/O", 24 P0[0] (io) "Digital I/O", 25 P0[2] (io) "Digital I/O", 26 P0[4] (io) "Digital I/O", 27 P0[6] (io) "Digital I/O", 28 VDD (power) "Supply voltage", 29 P0[7] (io) "Digital I/O", 30 P0[5] (io) "Digital I/O", 31 P0[3] (io) "Digital I/O", 32 VSS (power) "Ground", 33 EP (power) "Ensure the center pad is connected to ground"

## CY7C64343-32LQXCT
designator U?
enCoRe(TM) V Full Speed USB Controller, 8 KB, 25 I/Os, 3 to 5.5 V, 0 to 70 degC, 32-Pin QFN (LQX32), Tape and Reel; Manufacturer: Cypress; PartNumber: CY7C64343-32LQXCT; CPU Core: M8C; Max. Operating Voltage (V): 5.5; Memory Architecture: Flash; Memory Size (KB): 8; Min. Operating Voltage (V): 3; No. of I/Os: 25; Populated: Yes; DatasheetVersion: Rev. *R; PackageVersion: Rev. *E; PackageReference: LQX32; PackageDescription: 32-Pin QFN (5 x 4 x 0.55 mm) LQ32 3.5 x 3.5 E-Pad (Sawn); Supplier 1: Digi-Key; Supplier Part Number 1: CY7C64343-32LQXCT-ND; Max. Operating Temp. (degreesC): 70; Min. Operating Temp. (degreesC): 0; Packing: Tape and Reel; RoHS: Pb-Free; Mounting Technology: Surface Mount; Code_JEDEC: MO-248; ComponentLink1Description: Manufacturer URL; ComponentLink1URL: http://www.cypress.com/; ComponentLink2Description: Datasheet; ComponentLink2URL: http://www.cypress.com/?docID=46968; ComponentLink3Description: Package Specification; ComponentLink3URL: http://www.cypress.com/?docID=46968
footprint CYP-LQX32_N (QFN, 32-Leads, Body 5x5mm, Pitch 0.5mm, Thermal Pad 3.5x3.5mm, IPC Medium Density)
footprint CYP-LQX32_L (QFN, 32-Leads, Body 5x5mm, Pitch 0.5mm, Thermal Pad 3.5X3.5mm, IPC High Density)
footprint CYP-LQX32_M (QFN, 32-Leads, Body 5x5mm, Pitch 0.5mm, Thermal Pad 3.5x3.5mm, IPC Low Density)
pins: 1 P0[1] (io) "Digital I/O", 2 P2[5] (io) "Digital I/O, crystal output (Xout)", 3 P2[3] (io) "Digital I/O, crystal Input (Xin)", 4 P2[1] (io) "Digital I/O", 5 P1[7] (io) "Digital I/O, I2C SCL, SPI SS", 6 P1[5] (io) "Digital I/O, I2C SDA, SPI MISO", 7 P1[3] (io) "Digital I/O, SPI CLK", 8 P1[1] (io) "Digital I/O, ISSP CLK, I2C SCL, SPI MOSI", 9 VSS (power) "Ground", 10 D+ (io) "USB PHY", 11 D- (io) "USB PHY", 12 VDD (power) "Supply voltage", 13 P1[0] (io) "Digital I/O, ISSP DATA, I2C SDA, SPI CLK", 14 P1[2] (io) "Digital I/O", 15 P1[4] (io) "Digital I/O, optional external clock input (EXTCLK)", 16 P1[6] (io) "Digital I/O", 17 XRES (in) "Active high external reset with internal pull down", 18 P3[0] (io) "Digital I/O", 19 P3[2] (io) "Digital I/O", 20 P2[0] (io) "Digital I/O", 21 P2[2] (io) "Digital I/O", 22 P2[4] (io) "Digital I/O", 23 P2[6] (io) "Digital I/O", 24 P0[0] (io) "Digital I/O", 25 P0[2] (io) "Digital I/O", 26 P0[4] (io) "Digital I/O", 27 P0[6] (io) "Digital I/O", 28 VDD (power) "Supply voltage", 29 P0[7] (io) "Digital I/O", 30 P0[5] (io) "Digital I/O", 31 P0[3] (io) "Digital I/O", 32 VSS (power) "Ground", 33 EP (power) "Ensure the center pad is connected to ground"

## CY7C64343-32LQXI
designator U?
enCoRe(TM) V Full Speed USB Controller, 8 KB, 25 I/Os, 3 to 5.5 V, -40 to 85 degC, 32-Pin QFN (LQX32); Manufacturer: Cypress; PartNumber: CY7C64343-32LQXI; CPU Core: M8C; Max. Operating Voltage (V): 5.5; Memory Architecture: Flash; Memory Size (KB): 8; Min. Operating Voltage (V): 3; No. of I/Os: 25; Populated: Yes; DatasheetVersion: Rev. *R; PackageVersion: Rev. *E; PackageReference: LQX32; PackageDescription: 32-Pin QFN (5 x 4 x 0.55 mm) LQ32 3.5 x 3.5 E-Pad (Sawn); Max. Operating Temp. (degreesC): 85; Min. Operating Temp. (degreesC): -40; RoHS: Pb-Free; Mounting Technology: Surface Mount; Code_JEDEC: MO-248; ComponentLink1Description: Manufacturer URL; ComponentLink1URL: http://www.cypress.com/; ComponentLink2Description: Datasheet; ComponentLink2URL: http://www.cypress.com/?docID=46968; ComponentLink3Description: Package Specification; ComponentLink3URL: http://www.cypress.com/?docID=46968
footprint CYP-LQX32_N (QFN, 32-Leads, Body 5x5mm, Pitch 0.5mm, Thermal Pad 3.5x3.5mm, IPC Medium Density)
footprint CYP-LQX32_L (QFN, 32-Leads, Body 5x5mm, Pitch 0.5mm, Thermal Pad 3.5X3.5mm, IPC High Density)
footprint CYP-LQX32_M (QFN, 32-Leads, Body 5x5mm, Pitch 0.5mm, Thermal Pad 3.5x3.5mm, IPC Low Density)
pins: 1 P0[1] (io) "Digital I/O", 2 P2[5] (io) "Digital I/O, crystal output (Xout)", 3 P2[3] (io) "Digital I/O, crystal Input (Xin)", 4 P2[1] (io) "Digital I/O", 5 P1[7] (io) "Digital I/O, I2C SCL, SPI SS", 6 P1[5] (io) "Digital I/O, I2C SDA, SPI MISO", 7 P1[3] (io) "Digital I/O, SPI CLK", 8 P1[1] (io) "Digital I/O, ISSP CLK, I2C SCL, SPI MOSI", 9 VSS (power) "Ground", 10 D+ (io) "USB PHY", 11 D- (io) "USB PHY", 12 VDD (power) "Supply voltage", 13 P1[0] (io) "Digital I/O, ISSP DATA, I2C SDA, SPI CLK", 14 P1[2] (io) "Digital I/O", 15 P1[4] (io) "Digital I/O, optional external clock input (EXTCLK)", 16 P1[6] (io) "Digital I/O", 17 XRES (in) "Active high external reset with internal pull down", 18 P3[0] (io) "Digital I/O", 19 P3[2] (io) "Digital I/O", 20 P2[0] (io) "Digital I/O", 21 P2[2] (io) "Digital I/O", 22 P2[4] (io) "Digital I/O", 23 P2[6] (io) "Digital I/O", 24 P0[0] (io) "Digital I/O", 25 P0[2] (io) "Digital I/O", 26 P0[4] (io) "Digital I/O", 27 P0[6] (io) "Digital I/O", 28 VDD (power) "Supply voltage", 29 P0[7] (io) "Digital I/O", 30 P0[5] (io) "Digital I/O", 31 P0[3] (io) "Digital I/O", 32 VSS (power) "Ground", 33 EP (power) "Ensure the center pad is connected to ground"

## CY7C64343-32LQXIT
designator U?
enCoRe(TM) V Full Speed USB Controller, 8 KB, 25 I/Os, 3 to 5.5 V, -40 to 85 degC, 32-Pin QFN (LQX32), Tape and Reel; Manufacturer: Cypress; PartNumber: CY7C64343-32LQXIT; CPU Core: M8C; Max. Operating Voltage (V): 5.5; Memory Architecture: Flash; Memory Size (KB): 8; Min. Operating Voltage (V): 3; No. of I/Os: 25; Populated: Yes; DatasheetVersion: Rev. *R; PackageVersion: Rev. *E; PackageReference: LQX32; PackageDescription: 32-Pin QFN (5 x 4 x 0.55 mm) LQ32 3.5 x 3.5 E-Pad (Sawn); Max. Operating Temp. (degreesC): 85; Min. Operating Temp. (degreesC): -40; Packing: Tape and Reel; RoHS: Pb-Free; Mounting Technology: Surface Mount; Code_JEDEC: MO-248; ComponentLink1Description: Manufacturer URL; ComponentLink1URL: http://www.cypress.com/; ComponentLink2Description: Datasheet; ComponentLink2URL: http://www.cypress.com/?docID=46968; ComponentLink3Description: Package Specification; ComponentLink3URL: http://www.cypress.com/?docID=46968
footprint CYP-LQX32_N (QFN, 32-Leads, Body 5x5mm, Pitch 0.5mm, Thermal Pad 3.5x3.5mm, IPC Medium Density)
footprint CYP-LQX32_L (QFN, 32-Leads, Body 5x5mm, Pitch 0.5mm, Thermal Pad 3.5X3.5mm, IPC High Density)
footprint CYP-LQX32_M (QFN, 32-Leads, Body 5x5mm, Pitch 0.5mm, Thermal Pad 3.5x3.5mm, IPC Low Density)
pins: 1 P0[1] (io) "Digital I/O", 2 P2[5] (io) "Digital I/O, crystal output (Xout)", 3 P2[3] (io) "Digital I/O, crystal Input (Xin)", 4 P2[1] (io) "Digital I/O", 5 P1[7] (io) "Digital I/O, I2C SCL, SPI SS", 6 P1[5] (io) "Digital I/O, I2C SDA, SPI MISO", 7 P1[3] (io) "Digital I/O, SPI CLK", 8 P1[1] (io) "Digital I/O, ISSP CLK, I2C SCL, SPI MOSI", 9 VSS (power) "Ground", 10 D+ (io) "USB PHY", 11 D- (io) "USB PHY", 12 VDD (power) "Supply voltage", 13 P1[0] (io) "Digital I/O, ISSP DATA, I2C SDA, SPI CLK", 14 P1[2] (io) "Digital I/O", 15 P1[4] (io) "Digital I/O, optional external clock input (EXTCLK)", 16 P1[6] (io) "Digital I/O", 17 XRES (in) "Active high external reset with internal pull down", 18 P3[0] (io) "Digital I/O", 19 P3[2] (io) "Digital I/O", 20 P2[0] (io) "Digital I/O", 21 P2[2] (io) "Digital I/O", 22 P2[4] (io) "Digital I/O", 23 P2[6] (io) "Digital I/O", 24 P0[0] (io) "Digital I/O", 25 P0[2] (io) "Digital I/O", 26 P0[4] (io) "Digital I/O", 27 P0[6] (io) "Digital I/O", 28 VDD (power) "Supply voltage", 29 P0[7] (io) "Digital I/O", 30 P0[5] (io) "Digital I/O", 31 P0[3] (io) "Digital I/O", 32 VSS (power) "Ground", 33 EP (power) "Ensure the center pad is connected to ground"

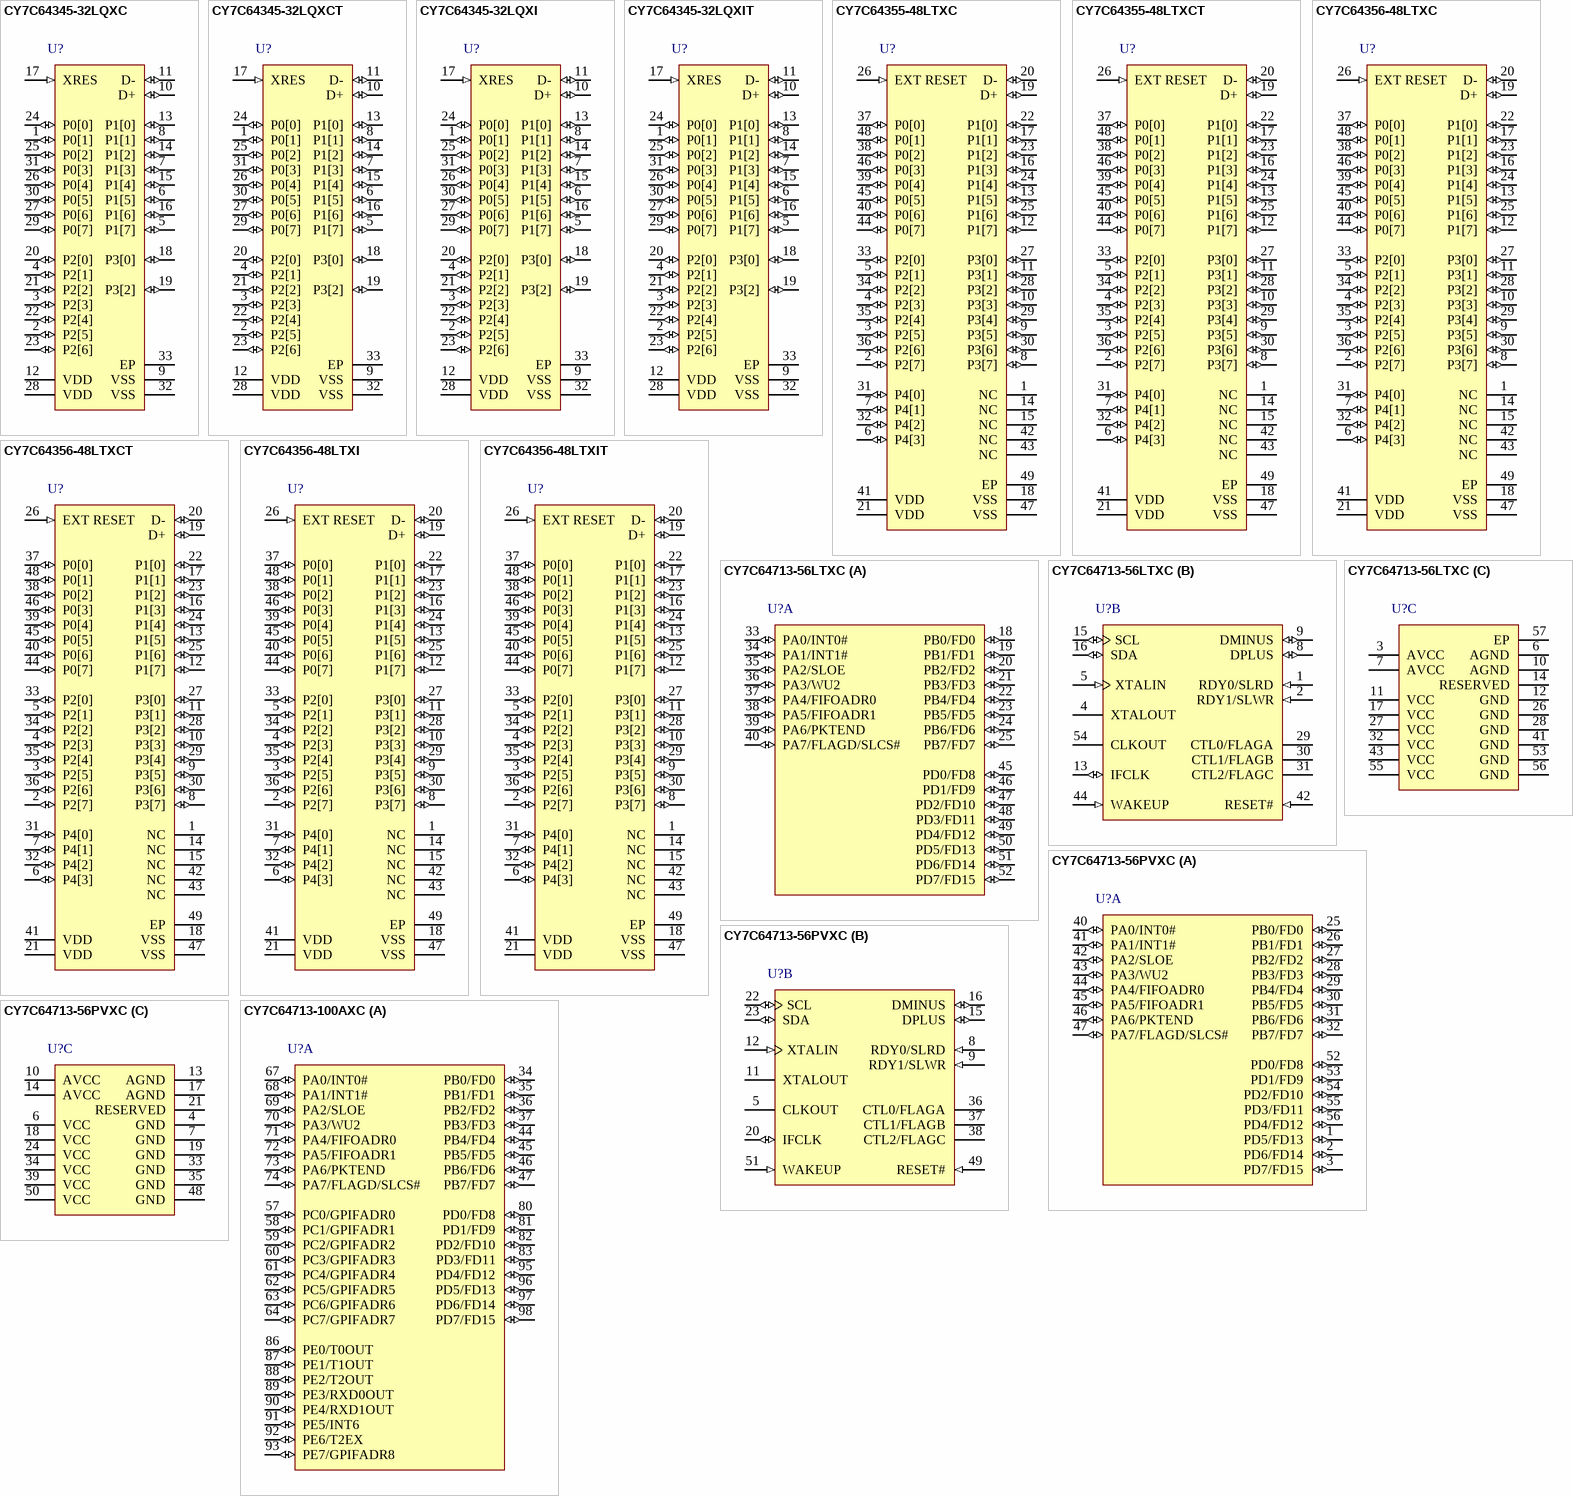
[diagram p2: symbols CY7C64345-32LQXC to CY7C64713-100AXC]

## CY7C64345-32LQXC
designator U?
enCoRe(TM) V Full Speed USB Controller, 16 KB, 25 I/Os, 3 to 5.5 V, 0 to 70 degC, 32-Pin QFN (LQX32), Tray; Manufacturer: Cypress; PartNumber: CY7C64345-32LQXC; CPU Core: M8C; Max. Operating Voltage (V): 5.5; Memory Architecture: Flash; Memory Size (KB): 16; Min. Operating Voltage (V): 3; No. of I/Os: 25; Populated: Yes; DatasheetVersion: Rev. *R; PackageVersion: Rev. *E; PackageReference: LQX32; PackageDescription: 32-Pin QFN (5 x 4 x 0.55 mm) LQ32 3.5 x 3.5 E-Pad (Sawn); Supplier 1: Digi-Key; Supplier Part Number 1: 428-2887-ND; Max. Operating Temp. (degreesC): 70; Min. Operating Temp. (degreesC): 0; Packing: Tray; RoHS: Pb-Free; Mounting Technology: Surface Mount; Code_JEDEC: MO-248; ComponentLink1Description: Manufacturer URL; ComponentLink1URL: http://www.cypress.com/; ComponentLink2Description: Datasheet; ComponentLink2URL: http://www.cypress.com/?docID=46968; ComponentLink3Description: Package Specification; ComponentLink3URL: http://www.cypress.com/?docID=46968
footprint CYP-LQX32_N (QFN, 32-Leads, Body 5x5mm, Pitch 0.5mm, Thermal Pad 3.5x3.5mm, IPC Medium Density)
footprint CYP-LQX32_L (QFN, 32-Leads, Body 5x5mm, Pitch 0.5mm, Thermal Pad 3.5X3.5mm, IPC High Density)
footprint CYP-LQX32_M (QFN, 32-Leads, Body 5x5mm, Pitch 0.5mm, Thermal Pad 3.5x3.5mm, IPC Low Density)
pins: 1 P0[1] (io) "Digital I/O", 2 P2[5] (io) "Digital I/O, crystal output (Xout)", 3 P2[3] (io) "Digital I/O, crystal Input (Xin)", 4 P2[1] (io) "Digital I/O", 5 P1[7] (io) "Digital I/O, I2C SCL, SPI SS", 6 P1[5] (io) "Digital I/O, I2C SDA, SPI MISO", 7 P1[3] (io) "Digital I/O, SPI CLK", 8 P1[1] (io) "Digital I/O, ISSP CLK, I2C SCL, SPI MOSI", 9 VSS (power) "Ground", 10 D+ (io) "USB PHY", 11 D- (io) "USB PHY", 12 VDD (power) "Supply voltage", 13 P1[0] (io) "Digital I/O, ISSP DATA, I2C SDA, SPI CLK", 14 P1[2] (io) "Digital I/O", 15 P1[4] (io) "Digital I/O, optional external clock input (EXTCLK)", 16 P1[6] (io) "Digital I/O", 17 XRES (in) "Active high external reset with internal pull down", 18 P3[0] (io) "Digital I/O", 19 P3[2] (io) "Digital I/O", 20 P2[0] (io) "Digital I/O", 21 P2[2] (io) "Digital I/O", 22 P2[4] (io) "Digital I/O", 23 P2[6] (io) "Digital I/O", 24 P0[0] (io) "Digital I/O", 25 P0[2] (io) "Digital I/O", 26 P0[4] (io) "Digital I/O", 27 P0[6] (io) "Digital I/O", 28 VDD (power) "Supply voltage", 29 P0[7] (io) "Digital I/O", 30 P0[5] (io) "Digital I/O", 31 P0[3] (io) "Digital I/O", 32 VSS (power) "Ground", 33 EP (power) "Ensure the center pad is connected to ground"